# Altium schematic symbol library lantronix.SCHLIB: 1 symbol
Pins are listed as number, name and electrical type; pins without a type are passive.

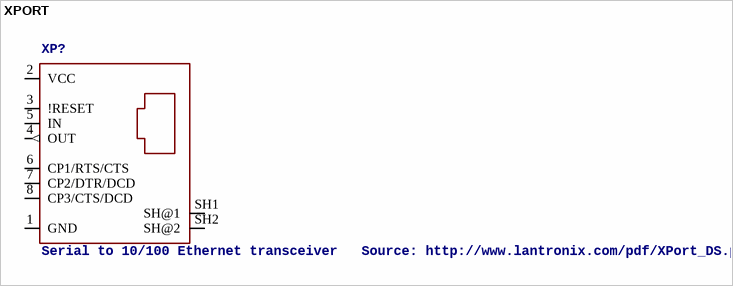
[diagram p0: symbol XPORT]

## XPORT
designator XP?, comment Serial to 10/100 Ethernet transceiver   Source: http://www.lantronix.com/pdf/XPort_DS.pdf
OC_FARNELL: unknown; OC_NEWARK: unknown
footprint XPORT
pins: 1 GND (power), 2 VCC (power), 3 !RESET, 4 OUT (out), 5 IN, 6 CP1/RTS/CTS, 7 CP2/DTR/DCD, 8 CP3/CTS/DCD, SH1 SH@1, SH2 SH@2